# EAGLE library part TPS61089RNRR (library TPS61089RNRR_4.8V_NEWIND)
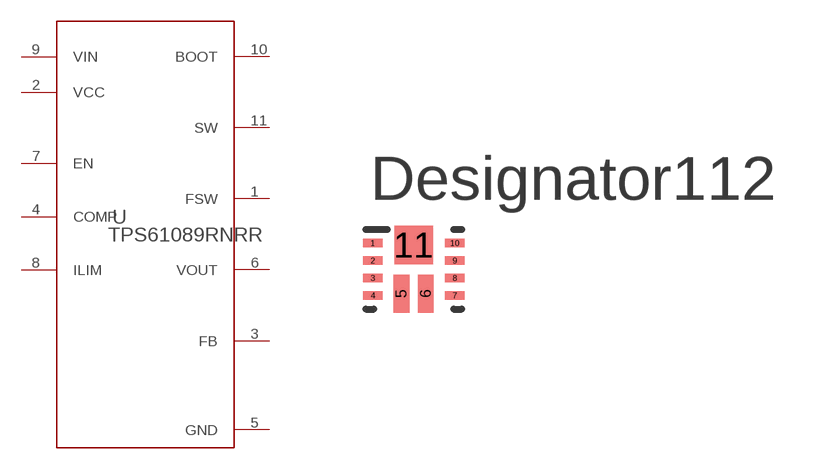
[diagram p0: symbol with the pads of RNR0011A; footprint RNR0011A]

Designator prefix U

## TPS61089RNRR (MANUFACTURER: Texas Instruments; MANUFACTURER_NAME: Texas Instruments; MANUFACTURER_PART_NUMBER: TPS61089RNRR; PARTNUMBER: TPS61089RNRR; REFDES: RefDes; TYPE: TYPE; VALUE: Value)  [RNR0011A]
1  FSW  in
2  VCC  pwr
3  FB  in
4  COMP  out
5  GND  pwr
6  VOUT  pwr
7  EN  in
8  ILIM  in
9  VIN  pwr
10  BOOT  pwr
11  SW  pwr

## Footprint RNR0011A (pad centres in mm)
smd 0.55 x 0.25: 1 -1.175,0.75; 2 -1.175,0.25; 3 -1.175,-0.25; 4 -1.175,-0.75; 7 1.175,-0.75; 8 1.175,-0.25; 9 1.175,0.25; 10 1.175,0.75
smd 0.45 x 1.1: 5 -0.35,-0.7; 6 0.35,-0.7
smd 1.1 x 1.1: 11 0,0.7